# Altium integrated library National Semiconductor Switcher.IntLib: 2226 symbols (part 59 of 59)
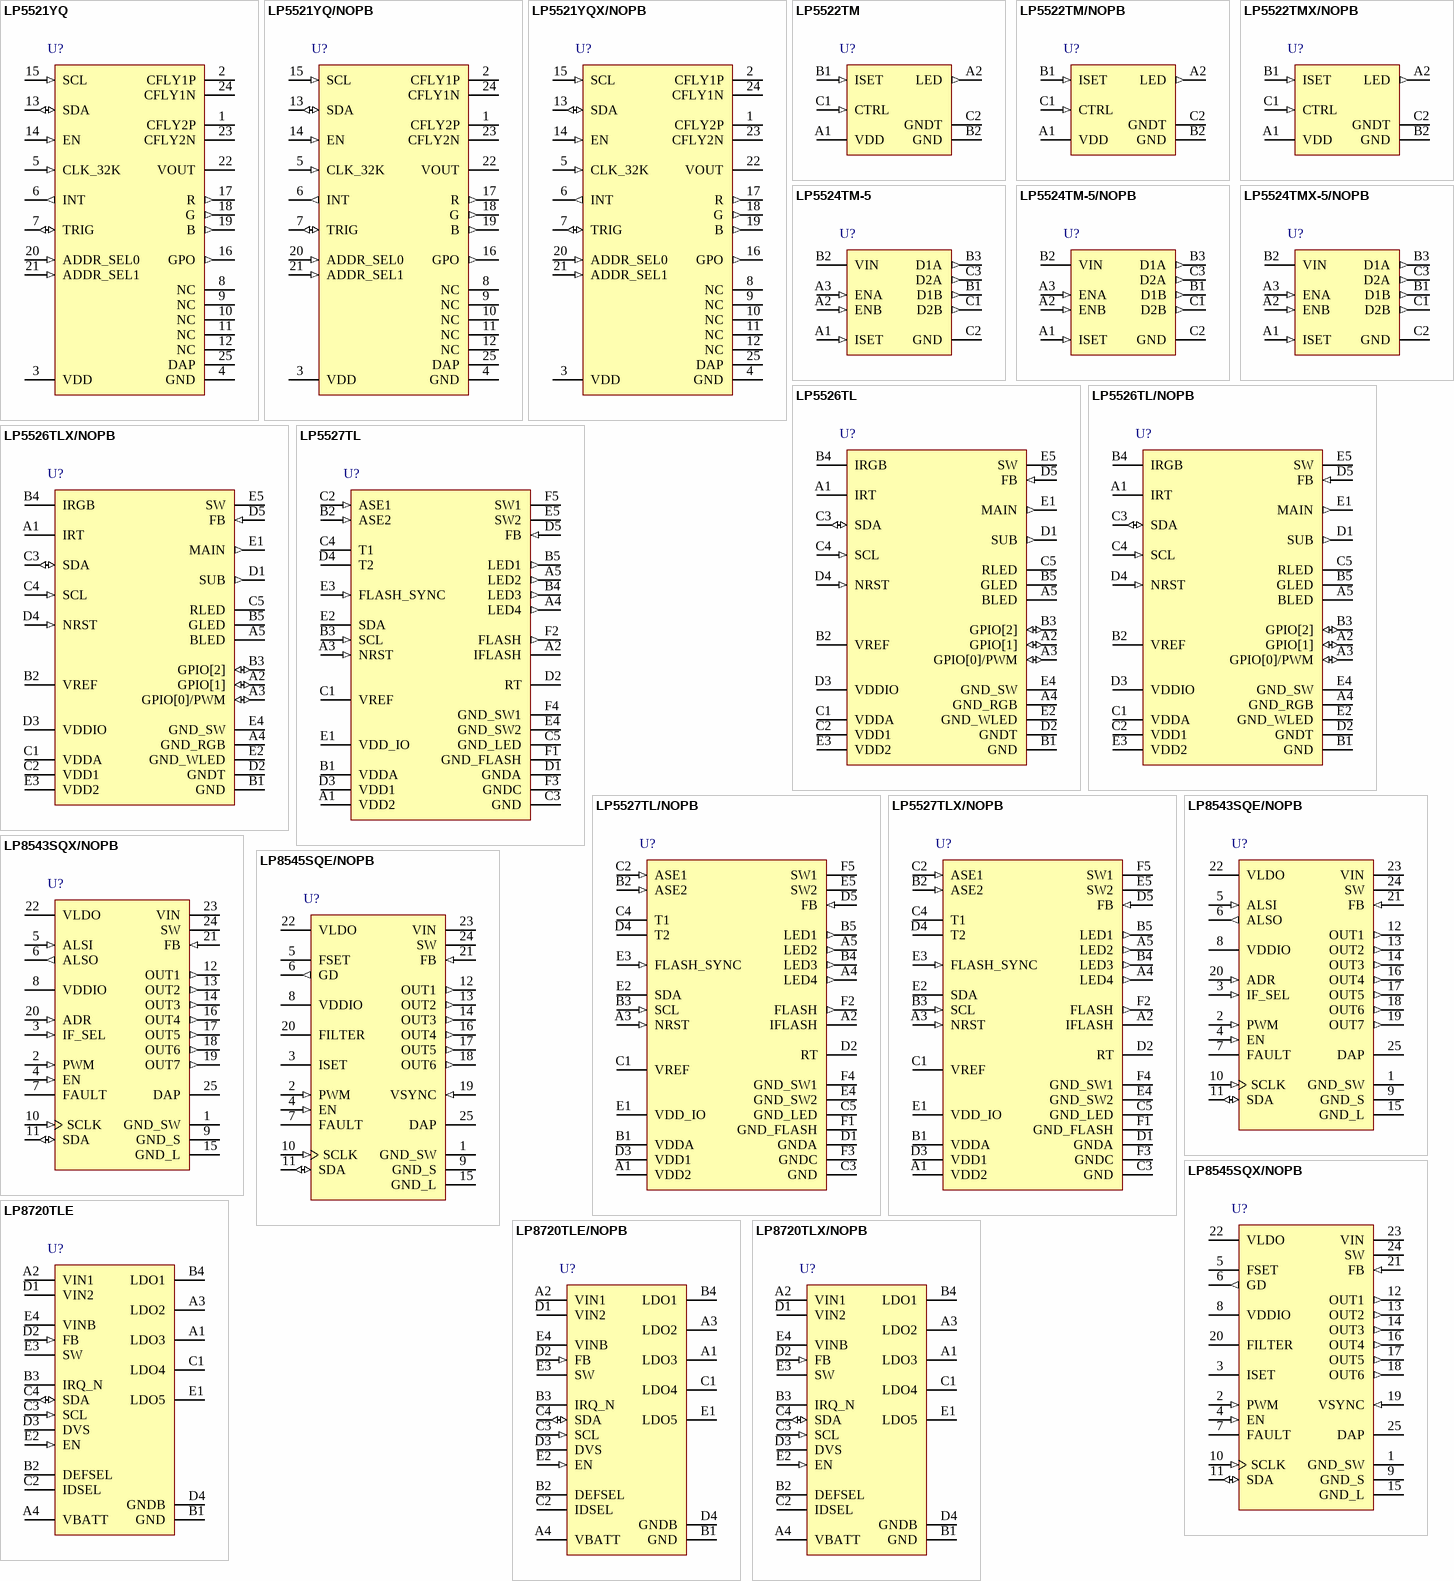
[diagram p127: symbols LP5521YQ to LP8720TLX/NOPB]

## LP8720TLX/NOPB
designator U?
One Step-Down DC/DC and Five Linear Regulators with I2C Compatible Interface, 20-pin Micro SMD, Pb-Free; PartNumber: LP8720TLX/NOPB; Manufacturer: National Semiconductor; PackageTopMarking: XYTT*I 8720; PowerWise: N; CompType: Switcher; High-Reliability: Y; DatasheetVersion: Jul-2008; PackageVersion: revC, Jan-2004; PackageReference: TLA2011A; PackageDescription: Thin Micro SMD, 20 Bump (Large), 0.5mm Pitch; RoHS: Y; PinCount: 20; Code_JEDEC: MO-211-DG; ComponentLink1Description: Manufacturer URL; ComponentLink1URL: http://www.national.com/; ComponentLink2Description: LP8720 Datasheet; ComponentLink2URL: http://www.national.com/ds/LP/LP8720.pdf; ComponentLink3Description: LP8720 Web Page; ComponentLink3URL: http://www.national.com/pf/LP/LP8720.html; ComponentLink4Description: TLA2011A Package Page; ComponentLink4URL: http://www.national.com/packaging/folders/tla2011a.html
footprint TLA2011A (Micro SMD, 20-Leads, Body 2.47x1.97mm, Pitch 0.5mm, NSC Recommended)
pins: A1 LDO3 (power), A2 VIN1 (power), A3 LDO2 (power), A4 VBATT (power), B1 GND (power), B2 DEFSEL, B3 IRQ_N, B4 LDO1 (power), C1 LDO4 (power), C2 IDSEL, C3 SCL (in), C4 SDA (io), D1 VIN2 (power), D2 FB (in), D3 DVS, D4 GNDB (power), E1 LDO5 (power), E2 EN (in), E3 SW (power), E4 VINB (power)

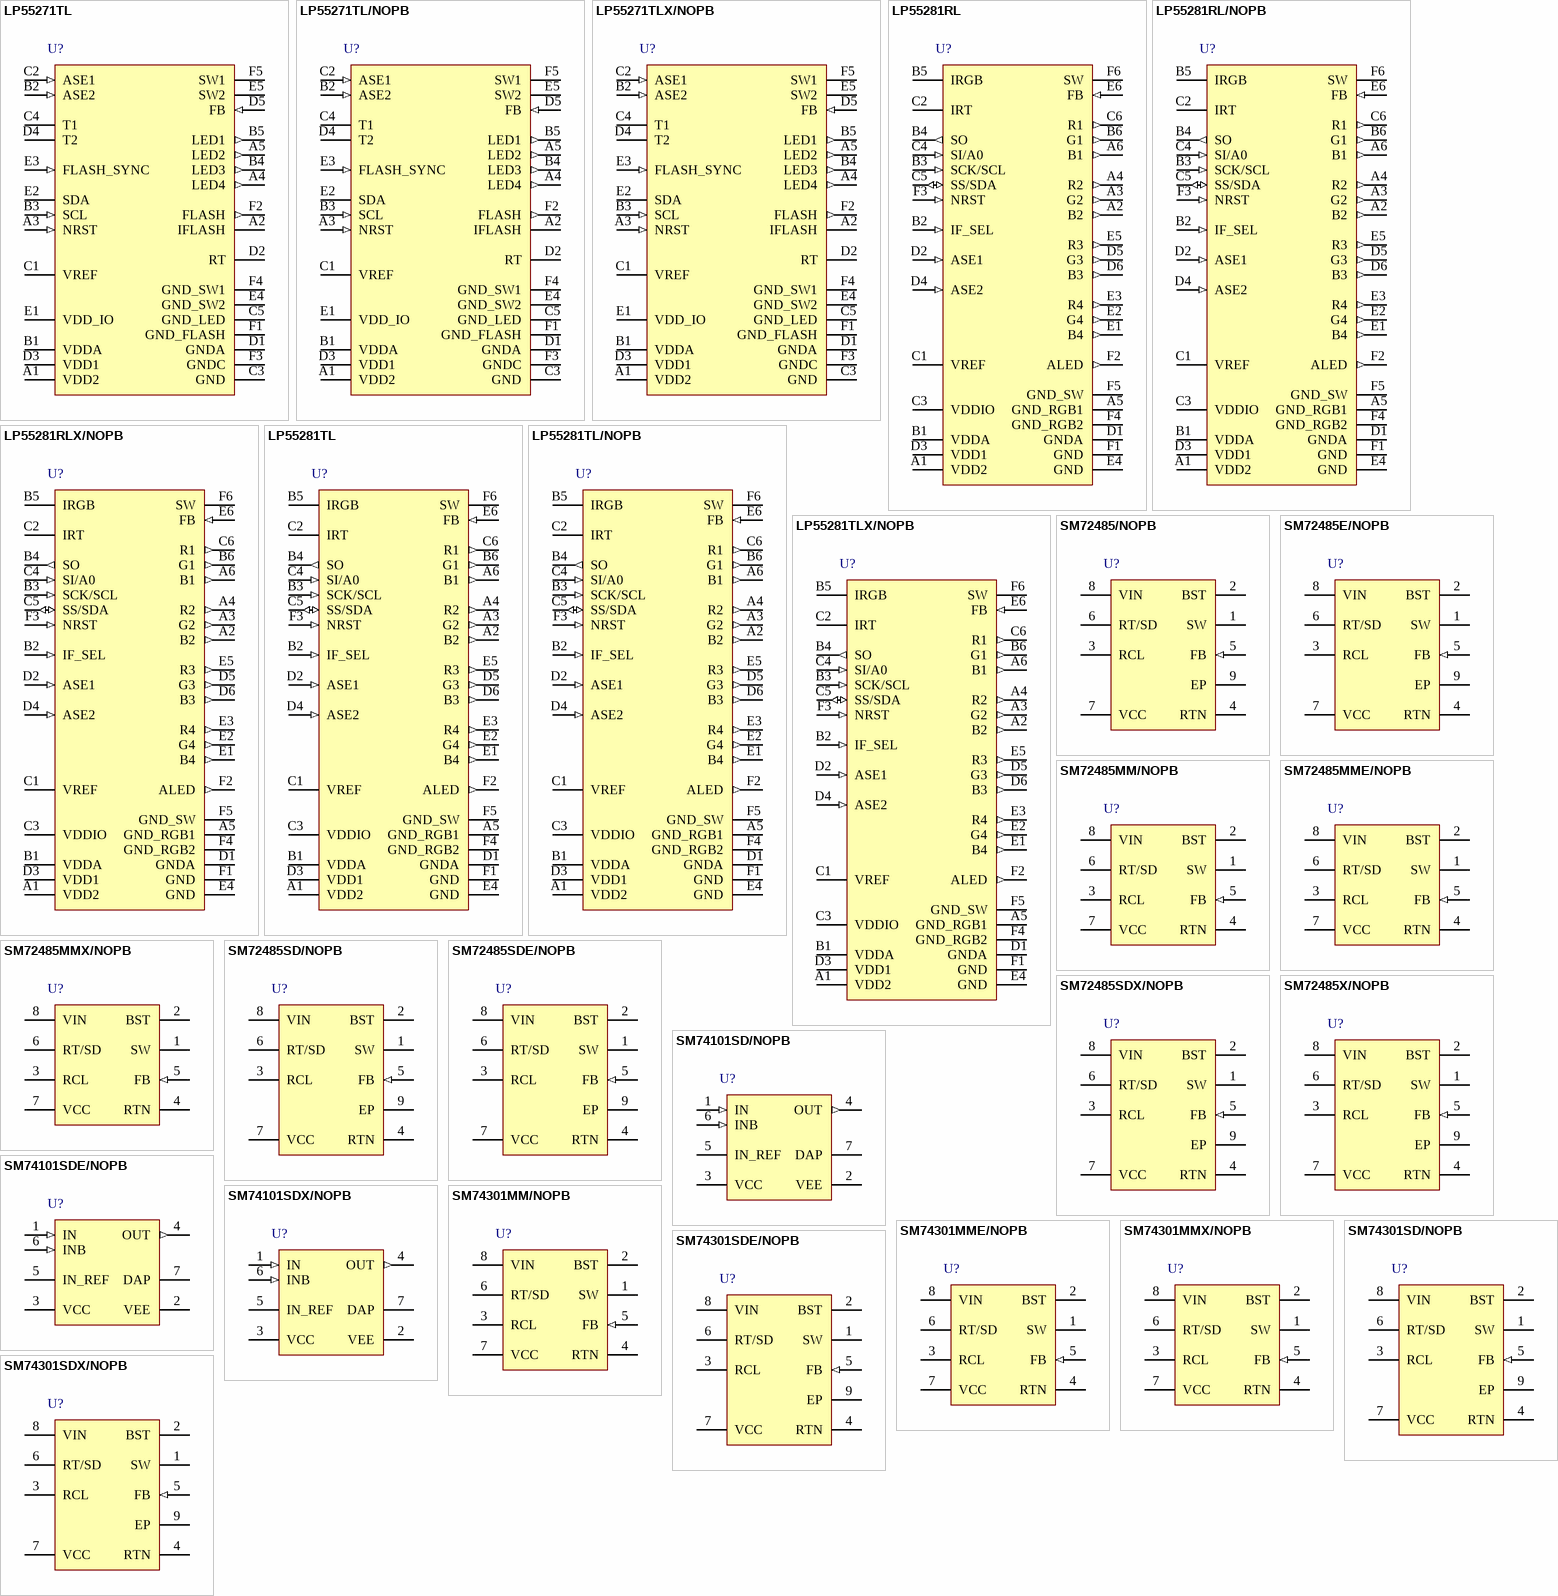
[diagram p69: symbols LP55271TL to SM74301SDX/NOPB]

## LP55271TL
designator U?
Tiny LED Driver for Camera Flash and 4 LEDs with I2C Programmability, Connectivity Test and Audio Synchronization, 30-pin Micro SMD; PartNumber: LP55271TL; Manufacturer: National Semiconductor; PackageTopMarking: XYTT*I D55B; PowerWise: Y; CompType: Switcher; DatasheetVersion: Sep-2006; PackageVersion: revC, Dec-2003; PackageReference: TLA3011A; PackageDescription: Thin Micro SMD, 30 Bump (Large), 0.5mm Pitch; RoHS: Y; PinCount: 30; High-Reliability: Y; Code_JEDEC: MO-211-DJ; ComponentLink1Description: Manufacturer URL; ComponentLink1URL: http://www.national.com/; ComponentLink2Description: LP55271 Datasheet; ComponentLink2URL: http://www.national.com/ds/LP/LP55271.pdf; ComponentLink3Description: LP55271 Web Page; ComponentLink3URL: http://www.national.com/pf/LP/LP55271.html; ComponentLink4Description: TLA3011A Package Page; ComponentLink4URL: http://www.national.com/packaging/folders/tla3011a.html
footprint TLA3011A (Micro SMD, 30-Leads, Body 2.97x2.47mm, Pitch 0.5mm, NSC Recommended)
pins: A1 VDD2 (power), A2 IFLASH, A3 NRST (in), A4 LED4 (out), A5 LED2 (out), B1 VDDA (power), B2 ASE2 (in), B3 SCL (in), B4 LED3 (out), B5 LED1 (out), C1 VREF, C2 ASE1 (in), C3 GND (power), C4 T1, C5 GND_LED (power), D1 GNDA (power), D2 RT, D3 VDD1 (power), D4 T2, D5 FB (in), E1 VDD_IO (power), E2 SDA (oc), E3 FLASH_SYNC (in), E4 GND_SW2 (power), E5 SW2 (power), F1 GND_FLASH (power), F2 FLASH (out), F3 GNDC (power), F4 GND_SW1 (power), F5 SW1 (power)

## LP55271TL/NOPB
designator U?
Tiny LED Driver for Camera Flash and 4 LEDs with I2C Programmability, Connectivity Test and Audio Synchronization, 30-pin Micro SMD, Pb-Free; PartNumber: LP55271TL/NOPB; Manufacturer: National Semiconductor; PackageTopMarking: XYTT*I D55B; PowerWise: Y; CompType: Switcher; DatasheetVersion: Sep-2006; PackageVersion: revC, Dec-2003; PackageReference: TLA3011A; PackageDescription: Thin Micro SMD, 30 Bump (Large), 0.5mm Pitch; RoHS: Y; PinCount: 30; High-Reliability: Y; Code_JEDEC: MO-211-DJ; ComponentLink1Description: Manufacturer URL; ComponentLink1URL: http://www.national.com/; ComponentLink2Description: LP55271 Datasheet; ComponentLink2URL: http://www.national.com/ds/LP/LP55271.pdf; ComponentLink3Description: LP55271 Web Page; ComponentLink3URL: http://www.national.com/pf/LP/LP55271.html; ComponentLink4Description: TLA3011A Package Page; ComponentLink4URL: http://www.national.com/packaging/folders/tla3011a.html
footprint TLA3011A (Micro SMD, 30-Leads, Body 2.97x2.47mm, Pitch 0.5mm, NSC Recommended)
pins: A1 VDD2 (power), A2 IFLASH, A3 NRST (in), A4 LED4 (out), A5 LED2 (out), B1 VDDA (power), B2 ASE2 (in), B3 SCL (in), B4 LED3 (out), B5 LED1 (out), C1 VREF, C2 ASE1 (in), C3 GND (power), C4 T1, C5 GND_LED (power), D1 GNDA (power), D2 RT, D3 VDD1 (power), D4 T2, D5 FB (in), E1 VDD_IO (power), E2 SDA (oc), E3 FLASH_SYNC (in), E4 GND_SW2 (power), E5 SW2 (power), F1 GND_FLASH (power), F2 FLASH (out), F3 GNDC (power), F4 GND_SW1 (power), F5 SW1 (power)

## LP55271TLX/NOPB
designator U?
Tiny LED Driver for Camera Flash and 4 LEDs with I2C Programmability, Connectivity Test and Audio Synchronization, 30-pin Micro SMD, Pb-Free; PartNumber: LP55271TLX/NOPB; Manufacturer: National Semiconductor; PackageTopMarking: XYTT*I D55B; PowerWise: Y; CompType: Switcher; DatasheetVersion: Sep-2006; PackageVersion: revC, Dec-2003; PackageReference: TLA3011A; PackageDescription: Thin Micro SMD, 30 Bump (Large), 0.5mm Pitch; RoHS: Y; PinCount: 30; High-Reliability: Y; Code_JEDEC: MO-211-DJ; ComponentLink1Description: Manufacturer URL; ComponentLink1URL: http://www.national.com/; ComponentLink2Description: LP55271 Datasheet; ComponentLink2URL: http://www.national.com/ds/LP/LP55271.pdf; ComponentLink3Description: LP55271 Web Page; ComponentLink3URL: http://www.national.com/pf/LP/LP55271.html; ComponentLink4Description: TLA3011A Package Page; ComponentLink4URL: http://www.national.com/packaging/folders/tla3011a.html
footprint TLA3011A (Micro SMD, 30-Leads, Body 2.97x2.47mm, Pitch 0.5mm, NSC Recommended)
pins: A1 VDD2 (power), A2 IFLASH, A3 NRST (in), A4 LED4 (out), A5 LED2 (out), B1 VDDA (power), B2 ASE2 (in), B3 SCL (in), B4 LED3 (out), B5 LED1 (out), C1 VREF, C2 ASE1 (in), C3 GND (power), C4 T1, C5 GND_LED (power), D1 GNDA (power), D2 RT, D3 VDD1 (power), D4 T2, D5 FB (in), E1 VDD_IO (power), E2 SDA (oc), E3 FLASH_SYNC (in), E4 GND_SW2 (power), E5 SW2 (power), F1 GND_FLASH (power), F2 FLASH (out), F3 GNDC (power), F4 GND_SW1 (power), F5 SW1 (power)

## LP55281RL
designator U?
Quad RGB Driver, 36-pin Micro SMDXT; PartNumber: LP55281RL; Manufacturer: National Semiconductor; PackageTopMarking: XYTT*I D61B; PowerWise: Y; CompType: Switcher; DatasheetVersion: Jun-2007; PackageVersion: Aug-2007; PackageReference: RLA36AAA; PackageDescription: Micro SMDxt, 36 Bump (Large), 0.5mm Pitch; RoHS: Y; PinCount: 36; High-Reliability: Y; ComponentLink1Description: Manufacturer URL; ComponentLink1URL: http://www.national.com/; ComponentLink2Description: LP55281 Datasheet; ComponentLink2URL: http://www.national.com/ds/LP/LP55281.pdf; ComponentLink3Description: LP55281 Web Page; ComponentLink3URL: http://www.national.com/pf/LP/LP55281.html
footprint RLA36AAA (Micro SMD, 36-Leads, Body 3x3mm, Pitch 0.5mm, NSC Recommended)
pins: A1 VDD2 (power), A2 B2 (out), A3 G2 (out), A4 R2 (out), A5 GND_RGB1 (power), A6 B1 (out), B1 VDDA (power), B2 IF_SEL (in), B3 SCK/SCL (in), B4 SO (out), B5 IRGB, B6 G1 (out), C1 VREF, C2 IRT, C3 VDDIO (power), C4 SI/A0 (in), C5 SS/SDA (io), C6 R1 (out), D1 GNDA (power), D2 ASE1 (in), D3 VDD1 (power), D4 ASE2 (in), D5 G3 (out), D6 B3 (out), E1 B4 (out), E2 G4 (out), E3 R4 (out), E4 GND (power), E5 R3 (out), E6 FB (in), F1 GND (power), F2 ALED (out), F3 NRST (in), F4 GND_RGB2 (power), F5 GND_SW (power), F6 SW (power)

## LP55281RL/NOPB
designator U?
Quad RGB Driver, 36-pin Micro SMDXT, Pb-Free; PartNumber: LP55281RL/NOPB; Manufacturer: National Semiconductor; PackageTopMarking: XYTT*I D61B; PowerWise: Y; CompType: Switcher; DatasheetVersion: Jun-2007; PackageVersion: Aug-2007; PackageReference: RLA36AAA; PackageDescription: Micro SMDxt, 36 Bump (Large), 0.5mm Pitch; RoHS: Y; PinCount: 36; High-Reliability: Y; ComponentLink1Description: Manufacturer URL; ComponentLink1URL: http://www.national.com/; ComponentLink2Description: LP55281 Datasheet; ComponentLink2URL: http://www.national.com/ds/LP/LP55281.pdf; ComponentLink3Description: LP55281 Web Page; ComponentLink3URL: http://www.national.com/pf/LP/LP55281.html; ComponentLink4Description: RLA36AAA Package Page; ComponentLink4URL: http://www.national.com/packaging/folders/rla36aaa.html
footprint RLA36AAA (Micro SMD, 36-Leads, Body 3x3mm, Pitch 0.5mm, NSC Recommended)
pins: A1 VDD2 (power), A2 B2 (out), A3 G2 (out), A4 R2 (out), A5 GND_RGB1 (power), A6 B1 (out), B1 VDDA (power), B2 IF_SEL (in), B3 SCK/SCL (in), B4 SO (out), B5 IRGB, B6 G1 (out), C1 VREF, C2 IRT, C3 VDDIO (power), C4 SI/A0 (in), C5 SS/SDA (io), C6 R1 (out), D1 GNDA (power), D2 ASE1 (in), D3 VDD1 (power), D4 ASE2 (in), D5 G3 (out), D6 B3 (out), E1 B4 (out), E2 G4 (out), E3 R4 (out), E4 GND (power), E5 R3 (out), E6 FB (in), F1 GND (power), F2 ALED (out), F3 NRST (in), F4 GND_RGB2 (power), F5 GND_SW (power), F6 SW (power)

## LP55281RLX/NOPB
designator U?
Quad RGB Driver, 36-pin Micro SMDXT, Pb-Free; PartNumber: LP55281RLX/NOPB; Manufacturer: National Semiconductor; PackageTopMarking: XYTT*I D61B; PowerWise: Y; CompType: Switcher; DatasheetVersion: Jun-2007; PackageVersion: Aug-2007; PackageReference: RLA36AAA; PackageDescription: Micro SMDxt, 36 Bump (Large), 0.5mm Pitch; RoHS: Y; PinCount: 36; High-Reliability: Y; ComponentLink1Description: Manufacturer URL; ComponentLink1URL: http://www.national.com/; ComponentLink2Description: LP55281 Datasheet; ComponentLink2URL: http://www.national.com/ds/LP/LP55281.pdf; ComponentLink3Description: LP55281 Web Page; ComponentLink3URL: http://www.national.com/pf/LP/LP55281.html; ComponentLink4Description: RLA36AAA Package Page; ComponentLink4URL: http://www.national.com/packaging/folders/rla36aaa.html
footprint RLA36AAA (Micro SMD, 36-Leads, Body 3x3mm, Pitch 0.5mm, NSC Recommended)
pins: A1 VDD2 (power), A2 B2 (out), A3 G2 (out), A4 R2 (out), A5 GND_RGB1 (power), A6 B1 (out), B1 VDDA (power), B2 IF_SEL (in), B3 SCK/SCL (in), B4 SO (out), B5 IRGB, B6 G1 (out), C1 VREF, C2 IRT, C3 VDDIO (power), C4 SI/A0 (in), C5 SS/SDA (io), C6 R1 (out), D1 GNDA (power), D2 ASE1 (in), D3 VDD1 (power), D4 ASE2 (in), D5 G3 (out), D6 B3 (out), E1 B4 (out), E2 G4 (out), E3 R4 (out), E4 GND (power), E5 R3 (out), E6 FB (in), F1 GND (power), F2 ALED (out), F3 NRST (in), F4 GND_RGB2 (power), F5 GND_SW (power), F6 SW (power)

## LP55281TL
designator U?
Quad RGB Driver, 36-pin Micro SMD; PartNumber: LP55281TL; Manufacturer: National Semiconductor; PackageTopMarking: XYTT*I D56B; PowerWise: Y; CompType: Switcher; DatasheetVersion: Jun-2007; PackageVersion: revC, Dec-2003; PackageReference: TLA36AAA; PackageDescription: Thin Micro SMD, 36 Bump (Large), 0.5mm Pitch; RoHS: Y; PinCount: 36; High-Reliability: Y; Code_JEDEC: MO-211-DK; ComponentLink1Description: Manufacturer URL; ComponentLink1URL: http://www.national.com/; ComponentLink2Description: LP55281 Datasheet; ComponentLink2URL: http://www.national.com/ds/LP/LP55281.pdf; ComponentLink3Description: LP55281 Web Page; ComponentLink3URL: http://www.national.com/pf/LP/LP55281.html; ComponentLink4Description: TLA36AAA Package Page; ComponentLink4URL: http://www.national.com/packaging/folders/tla36aaa.html
footprint TLA36AAA (Micro SMD, 36-Leads, Body 3x3mm, Pitch 0.5mm, NSC Recommended)
pins: A1 VDD2 (power), A2 B2 (out), A3 G2 (out), A4 R2 (out), A5 GND_RGB1 (power), A6 B1 (out), B1 VDDA (power), B2 IF_SEL (in), B3 SCK/SCL (in), B4 SO (out), B5 IRGB, B6 G1 (out), C1 VREF, C2 IRT, C3 VDDIO (power), C4 SI/A0 (in), C5 SS/SDA (io), C6 R1 (out), D1 GNDA (power), D2 ASE1 (in), D3 VDD1 (power), D4 ASE2 (in), D5 G3 (out), D6 B3 (out), E1 B4 (out), E2 G4 (out), E3 R4 (out), E4 GND (power), E5 R3 (out), E6 FB (in), F1 GND (power), F2 ALED (out), F3 NRST (in), F4 GND_RGB2 (power), F5 GND_SW (power), F6 SW (power)

## LP55281TL/NOPB
designator U?
Quad RGB Driver, 36-pin Micro SMD, Pb-Free; PartNumber: LP55281TL/NOPB; Manufacturer: National Semiconductor; PackageTopMarking: XYTT*I D56B; PowerWise: Y; CompType: Switcher; DatasheetVersion: Jun-2007; PackageVersion: revC, Dec-2003; PackageReference: TLA36AAA; PackageDescription: Thin Micro SMD, 36 Bump (Large), 0.5mm Pitch; RoHS: Y; PinCount: 36; High-Reliability: Y; Code_JEDEC: MO-211-DK; ComponentLink1Description: Manufacturer URL; ComponentLink1URL: http://www.national.com/; ComponentLink2Description: LP55281 Datasheet; ComponentLink2URL: http://www.national.com/ds/LP/LP55281.pdf; ComponentLink3Description: LP55281 Web Page; ComponentLink3URL: http://www.national.com/pf/LP/LP55281.html; ComponentLink4Description: TLA36AAA Package Page; ComponentLink4URL: http://www.national.com/packaging/folders/tla36aaa.html
footprint TLA36AAA (Micro SMD, 36-Leads, Body 3x3mm, Pitch 0.5mm, NSC Recommended)
pins: A1 VDD2 (power), A2 B2 (out), A3 G2 (out), A4 R2 (out), A5 GND_RGB1 (power), A6 B1 (out), B1 VDDA (power), B2 IF_SEL (in), B3 SCK/SCL (in), B4 SO (out), B5 IRGB, B6 G1 (out), C1 VREF, C2 IRT, C3 VDDIO (power), C4 SI/A0 (in), C5 SS/SDA (io), C6 R1 (out), D1 GNDA (power), D2 ASE1 (in), D3 VDD1 (power), D4 ASE2 (in), D5 G3 (out), D6 B3 (out), E1 B4 (out), E2 G4 (out), E3 R4 (out), E4 GND (power), E5 R3 (out), E6 FB (in), F1 GND (power), F2 ALED (out), F3 NRST (in), F4 GND_RGB2 (power), F5 GND_SW (power), F6 SW (power)

## LP55281TLX/NOPB
designator U?
Quad RGB Driver, 36-pin Micro SMD, Pb-Free; PartNumber: LP55281TLX/NOPB; Manufacturer: National Semiconductor; PackageTopMarking: XYTT*I D56B; PowerWise: Y; CompType: Switcher; DatasheetVersion: Jun-2007; PackageVersion: revC, Dec-2003; PackageReference: TLA36AAA; PackageDescription: Thin Micro SMD, 36 Bump (Large), 0.5mm Pitch; RoHS: Y; PinCount: 36; High-Reliability: Y; Code_JEDEC: MO-211-DK; ComponentLink1Description: Manufacturer URL; ComponentLink1URL: http://www.national.com/; ComponentLink2Description: LP55281 Datasheet; ComponentLink2URL: http://www.national.com/ds/LP/LP55281.pdf; ComponentLink3Description: LP55281 Web Page; ComponentLink3URL: http://www.national.com/pf/LP/LP55281.html; ComponentLink4Description: TLA36AAA Package Page; ComponentLink4URL: http://www.national.com/packaging/folders/tla36aaa.html
footprint TLA36AAA (Micro SMD, 36-Leads, Body 3x3mm, Pitch 0.5mm, NSC Recommended)
pins: A1 VDD2 (power), A2 B2 (out), A3 G2 (out), A4 R2 (out), A5 GND_RGB1 (power), A6 B1 (out), B1 VDDA (power), B2 IF_SEL (in), B3 SCK/SCL (in), B4 SO (out), B5 IRGB, B6 G1 (out), C1 VREF, C2 IRT, C3 VDDIO (power), C4 SI/A0 (in), C5 SS/SDA (io), C6 R1 (out), D1 GNDA (power), D2 ASE1 (in), D3 VDD1 (power), D4 ASE2 (in), D5 G3 (out), D6 B3 (out), E1 B4 (out), E2 G4 (out), E3 R4 (out), E4 GND (power), E5 R3 (out), E6 FB (in), F1 GND (power), F2 ALED (out), F3 NRST (in), F4 GND_RGB2 (power), F5 GND_SW (power), F6 SW (power)

## SM72485/NOPB
designator U?
SolarMagic 100V, 150 mA Constant On-Time Buck Switching Regulator, 8-pin LLP, 4500 Reel, Pb-Free; PartNumber: SM72485/NOPB; Manufacturer: National Semiconductor; PackageTopMarking: NS*UZXYTT*S2485; PowerWise: N; CompType: Switcher; High-Reliability: Y; DatasheetVersion: Feb-2011; PackageVersion: revA, Jun-2003; PackageReference: SDC08A; PackageDescription: LLP, Plastic, Dual, 4 x 4 x 0.8mm Body, 8 Lead, 0.8mm Pitch, No Pullback; RoHS: Y; PinCount: 8; ComponentLink1Description: Manufacturer URL; ComponentLink1URL: http://www.national.com/; ComponentLink2Description: SM72485 Datasheet; ComponentLink2URL: http://www.national.com/ds/SM/SM72485.pdf; ComponentLink3Description: SM72485 Web Page; ComponentLink3URL: http://www.national.com/pf/SM/SM72485.html; ComponentLink4Description: SDC08A Package Page; ComponentLink4URL: http://www.national.com/packaging/folders/sdc08a.html
footprint SDC08A (SON, 8-Leads, Body 4x4mm, Pitch 0.8mm, NSC Recommended)
pins: 1 SW, 2 BST, 3 RCL, 4 RTN (power), 5 FB (in), 6 RT/SD, 7 VCC (power), 8 VIN (power), 9 EP (power)

## SM72485E/NOPB
designator U?
SolarMagic 100V, 150 mA Constant On-Time Buck Switching Regulator, 8-pin LLP, 250 Reel, Pb-Free; PartNumber: SM72485E/NOPB; Manufacturer: National Semiconductor; PackageTopMarking: NS*UZXYTT*S2485; PowerWise: N; CompType: Switcher; High-Reliability: Y; DatasheetVersion: Feb-2011; PackageVersion: revA, Jun-2003; PackageReference: SDC08A; PackageDescription: LLP, Plastic, Dual, 4 x 4 x 0.8mm Body, 8 Lead, 0.8mm Pitch, No Pullback; RoHS: Y; PinCount: 8; ComponentLink1Description: Manufacturer URL; ComponentLink1URL: http://www.national.com/; ComponentLink2Description: SM72485 Datasheet; ComponentLink2URL: http://www.national.com/ds/SM/SM72485.pdf; ComponentLink3Description: SM72485 Web Page; ComponentLink3URL: http://www.national.com/pf/SM/SM72485.html; ComponentLink4Description: SDC08A Package Page; ComponentLink4URL: http://www.national.com/packaging/folders/sdc08a.html
footprint SDC08A (SON, 8-Leads, Body 4x4mm, Pitch 0.8mm, NSC Recommended)
pins: 1 SW, 2 BST, 3 RCL, 4 RTN (power), 5 FB (in), 6 RT/SD, 7 VCC (power), 8 VIN (power), 9 EP (power)

## SM72485MM/NOPB
designator U?
SolarMagic 100V, 150 mA Constant On-Time Buck Switching Regulator, 8-pin Mini SOIC; PartNumber: SM72485MM/NOPB; Manufacturer: National Semiconductor; PackageTopMarking: ZXTT*2485; PowerWise: N; CompType: Switcher; High-Reliability: Y; DatasheetVersion: May-2011; PackageVersion: revF, Apr-2008; PackageReference: MUA08A; PackageDescription: MINI SOIC, .118 x .118 x .034in, 8 Lead, .0256in Pitch; RoHS: Y; PinCount: 8; Code_JEDEC: MO-187-AA; ComponentLink1Description: Manufacturer URL; ComponentLink1URL: http://www.national.com/; ComponentLink2Description: SM72485 Datasheet; ComponentLink2URL: http://www.national.com/ds/SM/SM72485.pdf; ComponentLink3Description: SM72485 Web Page; ComponentLink3URL: http://www.national.com/pf/SM/SM72485.html; ComponentLink4Description: MUA08A Package Page; ComponentLink4URL: http://www.national.com/packaging/folders/mua08a.html
footprint MUA08A_N (TSOP, 8-Leads, Body 3x3mm, Pitch 0.65mm, IPC Medium Density)
footprint MUA08A_L (TSOP, 8-Leads, Body 3x3mm, Pitch 0.65mm, IPC High Density)
footprint MUA08A_M (TSOP, 8-Leads, Body 3x3mm, Pitch 0.65mm, IPC Low Density)
pins: 1 SW, 2 BST, 3 RCL, 4 RTN (power), 5 FB (in), 6 RT/SD, 7 VCC (power), 8 VIN (power)

## SM72485MME/NOPB
designator U?
SolarMagic 100V, 150 mA Constant On-Time Buck Switching Regulator, 8-pin Mini SOIC; PartNumber: SM72485MME/NOPB; Manufacturer: National Semiconductor; PackageTopMarking: ZXTT*2485; PowerWise: N; CompType: Switcher; High-Reliability: Y; DatasheetVersion: May-2011; PackageVersion: revF, Apr-2008; PackageReference: MUA08A; PackageDescription: MINI SOIC, .118 x .118 x .034in, 8 Lead, .0256in Pitch; RoHS: Y; PinCount: 8; Code_JEDEC: MO-187-AA; ComponentLink1Description: Manufacturer URL; ComponentLink1URL: http://www.national.com/; ComponentLink2Description: SM72485 Datasheet; ComponentLink2URL: http://www.national.com/ds/SM/SM72485.pdf; ComponentLink3Description: SM72485 Web Page; ComponentLink3URL: http://www.national.com/pf/SM/SM72485.html; ComponentLink4Description: MUA08A Package Page; ComponentLink4URL: http://www.national.com/packaging/folders/mua08a.html
footprint MUA08A_N (TSOP, 8-Leads, Body 3x3mm, Pitch 0.65mm, IPC Medium Density)
footprint MUA08A_L (TSOP, 8-Leads, Body 3x3mm, Pitch 0.65mm, IPC High Density)
footprint MUA08A_M (TSOP, 8-Leads, Body 3x3mm, Pitch 0.65mm, IPC Low Density)
pins: 1 SW, 2 BST, 3 RCL, 4 RTN (power), 5 FB (in), 6 RT/SD, 7 VCC (power), 8 VIN (power)

## SM72485MMX/NOPB
designator U?
SolarMagic 100V, 150 mA Constant On-Time Buck Switching Regulator, 8-pin Mini SOIC; PartNumber: SM72485MMX/NOPB; Manufacturer: National Semiconductor; PackageTopMarking: ZXTT*2485; PowerWise: N; CompType: Switcher; High-Reliability: Y; DatasheetVersion: May-2011; PackageVersion: revF, Apr-2008; PackageReference: MUA08A; PackageDescription: MINI SOIC, .118 x .118 x .034in, 8 Lead, .0256in Pitch; RoHS: Y; PinCount: 8; Code_JEDEC: MO-187-AA; ComponentLink1Description: Manufacturer URL; ComponentLink1URL: http://www.national.com/; ComponentLink2Description: SM72485 Datasheet; ComponentLink2URL: http://www.national.com/ds/SM/SM72485.pdf; ComponentLink3Description: SM72485 Web Page; ComponentLink3URL: http://www.national.com/pf/SM/SM72485.html; ComponentLink4Description: MUA08A Package Page; ComponentLink4URL: http://www.national.com/packaging/folders/mua08a.html
footprint MUA08A_N (TSOP, 8-Leads, Body 3x3mm, Pitch 0.65mm, IPC Medium Density)
footprint MUA08A_L (TSOP, 8-Leads, Body 3x3mm, Pitch 0.65mm, IPC High Density)
footprint MUA08A_M (TSOP, 8-Leads, Body 3x3mm, Pitch 0.65mm, IPC Low Density)
pins: 1 SW, 2 BST, 3 RCL, 4 RTN (power), 5 FB (in), 6 RT/SD, 7 VCC (power), 8 VIN (power)

## SM72485SD/NOPB
designator U?
SolarMagic 100V, 150 mA Constant On-Time Buck Switching Regulator, 8-pin LLP, 1000 Reel; PartNumber: SM72485SD/NOPB; Manufacturer: National Semiconductor; PackageTopMarking: NS*UZXYTT*S2485; PowerWise: N; CompType: Switcher; High-Reliability: Y; DatasheetVersion: May-2011; PackageVersion: revA, Mar-2006; PackageReference: SDC08B; PackageDescription: LLP, Dual, 4 x 4 x 0.8mm Body, 8 Lead, 0.8mm Pitch, No Pullback, 1.98 x 3mm Exposed Pad; RoHS: Y; PinCount: 8; ComponentLink1Description: Manufacturer URL; ComponentLink1URL: http://www.national.com/; ComponentLink2Description: SM72485 Datasheet; ComponentLink2URL: http://www.national.com/ds/SM/SM72485.pdf; ComponentLink3Description: SM72485 Web Page; ComponentLink3URL: http://www.national.com/pf/SM/SM72485.html; ComponentLink4Description: SDC08B Package Page; ComponentLink4URL: http://www.national.com/packaging/folders/sdc08b.html
footprint SDC08B (SON, 8-Leads, Body 4x4mm, Pitch 0.8mm, NSC Recommended)
pins: 1 SW, 2 BST, 3 RCL, 4 RTN (power), 5 FB (in), 6 RT/SD, 7 VCC (power), 8 VIN (power), 9 EP (power)

## SM72485SDE/NOPB
designator U?
SolarMagic 100V, 150 mA Constant On-Time Buck Switching Regulator, 8-pin LLP, 250 Reel; PartNumber: SM72485SDE/NOPB; Manufacturer: National Semiconductor; PackageTopMarking: NS*UZXYTT*S2485; PowerWise: N; CompType: Switcher; High-Reliability: Y; DatasheetVersion: May-2011; PackageVersion: revA, Mar-2006; PackageReference: SDC08B; PackageDescription: LLP, Dual, 4 x 4 x 0.8mm Body, 8 Lead, 0.8mm Pitch, No Pullback, 1.98 x 3mm Exposed Pad; RoHS: Y; PinCount: 8; ComponentLink1Description: Manufacturer URL; ComponentLink1URL: http://www.national.com/; ComponentLink2Description: SM72485 Datasheet; ComponentLink2URL: http://www.national.com/ds/SM/SM72485.pdf; ComponentLink3Description: SM72485 Web Page; ComponentLink3URL: http://www.national.com/pf/SM/SM72485.html; ComponentLink4Description: SDC08B Package Page; ComponentLink4URL: http://www.national.com/packaging/folders/sdc08b.html
footprint SDC08B (SON, 8-Leads, Body 4x4mm, Pitch 0.8mm, NSC Recommended)
pins: 1 SW, 2 BST, 3 RCL, 4 RTN (power), 5 FB (in), 6 RT/SD, 7 VCC (power), 8 VIN (power), 9 EP (power)

## SM72485SDX/NOPB
designator U?
SolarMagic 100V, 150 mA Constant On-Time Buck Switching Regulator, 8-pin LLP, 4500 Reel; PartNumber: SM72485SDX/NOPB; Manufacturer: National Semiconductor; PackageTopMarking: NS*UZXYTT*S2485; PowerWise: N; CompType: Switcher; High-Reliability: Y; DatasheetVersion: May-2011; PackageVersion: revA, Mar-2006; PackageReference: SDC08B; PackageDescription: LLP, Dual, 4 x 4 x 0.8mm Body, 8 Lead, 0.8mm Pitch, No Pullback, 1.98 x 3mm Exposed Pad; RoHS: Y; PinCount: 8; ComponentLink1Description: Manufacturer URL; ComponentLink1URL: http://www.national.com/; ComponentLink2Description: SM72485 Datasheet; ComponentLink2URL: http://www.national.com/ds/SM/SM72485.pdf; ComponentLink3Description: SM72485 Web Page; ComponentLink3URL: http://www.national.com/pf/SM/SM72485.html; ComponentLink4Description: SDC08B Package Page; ComponentLink4URL: http://www.national.com/packaging/folders/sdc08b.html
footprint SDC08B (SON, 8-Leads, Body 4x4mm, Pitch 0.8mm, NSC Recommended)
pins: 1 SW, 2 BST, 3 RCL, 4 RTN (power), 5 FB (in), 6 RT/SD, 7 VCC (power), 8 VIN (power), 9 EP (power)

## SM72485X/NOPB
designator U?
SolarMagic 100V, 150 mA Constant On-Time Buck Switching Regulator, 8-pin LLP, 4500 Reel, Pb-Free; PartNumber: SM72485X/NOPB; Manufacturer: National Semiconductor; PackageTopMarking: NS*UZXYTT*S2485; PowerWise: N; CompType: Switcher; High-Reliability: Y; DatasheetVersion: Feb-2011; PackageVersion: revA, Jun-2003; PackageReference: SDC08A; PackageDescription: LLP, Plastic, Dual, 4 x 4 x 0.8mm Body, 8 Lead, 0.8mm Pitch, No Pullback; RoHS: Y; PinCount: 8; ComponentLink1Description: Manufacturer URL; ComponentLink1URL: http://www.national.com/; ComponentLink2Description: SM72485 Datasheet; ComponentLink2URL: http://www.national.com/ds/SM/SM72485.pdf; ComponentLink3Description: SM72485 Web Page; ComponentLink3URL: http://www.national.com/pf/SM/SM72485.html; ComponentLink4Description: SDC08A Package Page; ComponentLink4URL: http://www.national.com/packaging/folders/sdc08a.html
footprint SDC08A (SON, 8-Leads, Body 4x4mm, Pitch 0.8mm, NSC Recommended)
pins: 1 SW, 2 BST, 3 RCL, 4 RTN (power), 5 FB (in), 6 RT/SD, 7 VCC (power), 8 VIN (power), 9 EP (power)

## SM74101SD/NOPB
designator U?
Tiny 7A MOSFET Gate Driver, 6-pin LLP; PartNumber: SM74101SD/NOPB; Manufacturer: National Semiconductor; PackageTopMarking: ZXYTT*L264B; PowerWise: N; CompType: Switcher; High-Reliability: Y; DatasheetVersion: Jul-2011; PackageVersion: revA, Jul-2003; PackageReference: SDE06A; PackageDescription: LLP, Plastic, Dual, 3 x 3 x 0.8mm Body, 6 Lead, 0.95mm Pitch, No Pullback; RoHS: Y; PinCount: 6; ComponentLink1Description: Manufacturer URL; ComponentLink1URL: http://www.national.com/; ComponentLink2Description: SM74101 Datasheet; ComponentLink2URL: http://www.national.com/ds/SM/SM74101.pdf; ComponentLink3Description: SM74101 Web Page; ComponentLink3URL: http://www.national.com/pf/SM/SM74101.html; ComponentLink4Description: SDE06A Package Page; ComponentLink4URL: http://www.national.com/packaging/folders/sde06a.html
footprint SDE06A_full (SON, 6-Leads, Body 3x3 mm, Pitch 0.95mm, Full Paste, NSC Recommended)
footprint SDE06A_quad (SON, 6-Leads, Body 3x3 mm, Pitch 0.95mm, Quad Paste, NSC Recommended)
pins: 1 IN (in), 2 VEE (power), 3 VCC (power), 4 OUT (out), 5 IN_REF (power), 6 INB (in), 7 DAP (power)

## SM74101SDE/NOPB
designator U?
Tiny 7A MOSFET Gate Driver, 6-pin LLP; PartNumber: SM74101SDE/NOPB; Manufacturer: National Semiconductor; PackageTopMarking: ZXYTT*L264B; PowerWise: N; CompType: Switcher; High-Reliability: Y; DatasheetVersion: Jul-2011; PackageVersion: revA, Jul-2003; PackageReference: SDE06A; PackageDescription: LLP, Plastic, Dual, 3 x 3 x 0.8mm Body, 6 Lead, 0.95mm Pitch, No Pullback; RoHS: Y; PinCount: 6; ComponentLink1Description: Manufacturer URL; ComponentLink1URL: http://www.national.com/; ComponentLink2Description: SM74101 Datasheet; ComponentLink2URL: http://www.national.com/ds/SM/SM74101.pdf; ComponentLink3Description: SM74101 Web Page; ComponentLink3URL: http://www.national.com/pf/SM/SM74101.html; ComponentLink4Description: SDE06A Package Page; ComponentLink4URL: http://www.national.com/packaging/folders/sde06a.html
footprint SDE06A_full (SON, 6-Leads, Body 3x3 mm, Pitch 0.95mm, Full Paste, NSC Recommended)
footprint SDE06A_quad (SON, 6-Leads, Body 3x3 mm, Pitch 0.95mm, Quad Paste, NSC Recommended)
pins: 1 IN (in), 2 VEE (power), 3 VCC (power), 4 OUT (out), 5 IN_REF (power), 6 INB (in), 7 DAP (power)

## SM74101SDX/NOPB
designator U?
Tiny 7A MOSFET Gate Driver, 6-pin LLP; PartNumber: SM74101SDX/NOPB; Manufacturer: National Semiconductor; PackageTopMarking: ZXYTT*L264B; PowerWise: N; CompType: Switcher; High-Reliability: Y; DatasheetVersion: Jul-2011; PackageVersion: revA, Jul-2003; PackageReference: SDE06A; PackageDescription: LLP, Plastic, Dual, 3 x 3 x 0.8mm Body, 6 Lead, 0.95mm Pitch, No Pullback; RoHS: Y; PinCount: 6; ComponentLink1Description: Manufacturer URL; ComponentLink1URL: http://www.national.com/; ComponentLink2Description: SM74101 Datasheet; ComponentLink2URL: http://www.national.com/ds/SM/SM74101.pdf; ComponentLink3Description: SM74101 Web Page; ComponentLink3URL: http://www.national.com/pf/SM/SM74101.html; ComponentLink4Description: SDE06A Package Page; ComponentLink4URL: http://www.national.com/packaging/folders/sde06a.html
footprint SDE06A_full (SON, 6-Leads, Body 3x3 mm, Pitch 0.95mm, Full Paste, NSC Recommended)
footprint SDE06A_quad (SON, 6-Leads, Body 3x3 mm, Pitch 0.95mm, Quad Paste, NSC Recommended)
pins: 1 IN (in), 2 VEE (power), 3 VCC (power), 4 OUT (out), 5 IN_REF (power), 6 INB (in), 7 DAP (power)

## SM74301MM/NOPB
designator U?
100V, 350 mA Constant On-Time Buck Switching Regulator, 8-pin Mini SOIC; PartNumber: SM74301MM/NOPB; Manufacturer: National Semiconductor; PackageTopMarking: ZXTT*SB9B; PowerWise: N; CompType: Switcher; High-Reliability: Y; DatasheetVersion: Jul-2011; PackageVersion: revF, Apr-2008; PackageReference: MUA08A; PackageDescription: MINI SOIC, .118 x .118 x .034in, 8 Lead, .0256in Pitch; RoHS: Y; PinCount: 8; Code_JEDEC: MO-187-AA; ComponentLink1Description: Manufacturer URL; ComponentLink1URL: http://www.national.com/; ComponentLink2Description: SM74301 Datasheet; ComponentLink2URL: http://www.national.com/ds/SM/SM74301.pdf; ComponentLink3Description: SM74301 Web Page; ComponentLink3URL: http://www.national.com/pf/SM/SM74301.html; ComponentLink4Description: MUA08A Package Page; ComponentLink4URL: http://www.national.com/packaging/folders/mua08a.html
footprint MUA08A_N (TSOP, 8-Leads, Body 3x3mm, Pitch 0.65mm, IPC Medium Density)
footprint MUA08A_L (TSOP, 8-Leads, Body 3x3mm, Pitch 0.65mm, IPC High Density)
footprint MUA08A_M (TSOP, 8-Leads, Body 3x3mm, Pitch 0.65mm, IPC Low Density)
pins: 1 SW, 2 BST, 3 RCL, 4 RTN (power), 5 FB (in), 6 RT/SD, 7 VCC (power), 8 VIN (power)

## SM74301MME/NOPB
designator U?
100V, 350 mA Constant On-Time Buck Switching Regulator, 8-pin Mini SOIC; PartNumber: SM74301MME/NOPB; Manufacturer: National Semiconductor; PackageTopMarking: ZXTT*SB9B; PowerWise: N; CompType: Switcher; High-Reliability: Y; DatasheetVersion: Jul-2011; PackageVersion: revF, Apr-2008; PackageReference: MUA08A; PackageDescription: MINI SOIC, .118 x .118 x .034in, 8 Lead, .0256in Pitch; RoHS: Y; PinCount: 8; Code_JEDEC: MO-187-AA; ComponentLink1Description: Manufacturer URL; ComponentLink1URL: http://www.national.com/; ComponentLink2Description: SM74301 Datasheet; ComponentLink2URL: http://www.national.com/ds/SM/SM74301.pdf; ComponentLink3Description: SM74301 Web Page; ComponentLink3URL: http://www.national.com/pf/SM/SM74301.html; ComponentLink4Description: MUA08A Package Page; ComponentLink4URL: http://www.national.com/packaging/folders/mua08a.html
footprint MUA08A_N (TSOP, 8-Leads, Body 3x3mm, Pitch 0.65mm, IPC Medium Density)
footprint MUA08A_L (TSOP, 8-Leads, Body 3x3mm, Pitch 0.65mm, IPC High Density)
footprint MUA08A_M (TSOP, 8-Leads, Body 3x3mm, Pitch 0.65mm, IPC Low Density)
pins: 1 SW, 2 BST, 3 RCL, 4 RTN (power), 5 FB (in), 6 RT/SD, 7 VCC (power), 8 VIN (power)

## SM74301MMX/NOPB
designator U?
100V, 350 mA Constant On-Time Buck Switching Regulator, 8-pin Mini SOIC; PartNumber: SM74301MMX/NOPB; Manufacturer: National Semiconductor; PackageTopMarking: ZXTT*SB9B; PowerWise: N; CompType: Switcher; High-Reliability: Y; DatasheetVersion: Jul-2011; PackageVersion: revF, Apr-2008; PackageReference: MUA08A; PackageDescription: MINI SOIC, .118 x .118 x .034in, 8 Lead, .0256in Pitch; RoHS: Y; PinCount: 8; Code_JEDEC: MO-187-AA; ComponentLink1Description: Manufacturer URL; ComponentLink1URL: http://www.national.com/; ComponentLink2Description: SM74301 Datasheet; ComponentLink2URL: http://www.national.com/ds/SM/SM74301.pdf; ComponentLink3Description: SM74301 Web Page; ComponentLink3URL: http://www.national.com/pf/SM/SM74301.html; ComponentLink4Description: MUA08A Package Page; ComponentLink4URL: http://www.national.com/packaging/folders/mua08a.html
footprint MUA08A_N (TSOP, 8-Leads, Body 3x3mm, Pitch 0.65mm, IPC Medium Density)
footprint MUA08A_L (TSOP, 8-Leads, Body 3x3mm, Pitch 0.65mm, IPC High Density)
footprint MUA08A_M (TSOP, 8-Leads, Body 3x3mm, Pitch 0.65mm, IPC Low Density)
pins: 1 SW, 2 BST, 3 RCL, 4 RTN (power), 5 FB (in), 6 RT/SD, 7 VCC (power), 8 VIN (power)

## SM74301SD/NOPB
designator U?
100V, 350 mA Constant On-Time Buck Switching Regulator, 8-pin LLP; PartNumber: SM74301SD/NOPB; Manufacturer: National Semiconductor; PackageTopMarking: NS*UZXYTT*S4301; PowerWise: N; CompType: Switcher; High-Reliability: Y; DatasheetVersion: Jul-2011; PackageVersion: revA, Mar-2006; PackageReference: SDC08B; PackageDescription: LLP, Dual, 4 x 4 x 0.8mm Body, 8 Lead, 0.8mm Pitch, No Pullback, 1.98 x 3mm Exposed Pad; RoHS: Y; PinCount: 8; ComponentLink1Description: Manufacturer URL; ComponentLink1URL: http://www.national.com/; ComponentLink2Description: SM74301 Datasheet; ComponentLink2URL: http://www.national.com/ds/SM/SM74301.pdf; ComponentLink3Description: SM74301 Web Page; ComponentLink3URL: http://www.national.com/pf/SM/SM74301.html; ComponentLink4Description: SDC08B Package Page; ComponentLink4URL: http://www.national.com/packaging/folders/sdc08b.html
footprint SDC08B (SON, 8-Leads, Body 4x4mm, Pitch 0.8mm, NSC Recommended)
pins: 1 SW, 2 BST, 3 RCL, 4 RTN (power), 5 FB (in), 6 RT/SD, 7 VCC (power), 8 VIN (power), 9 EP (power)

## SM74301SDE/NOPB
designator U?
100V, 350 mA Constant On-Time Buck Switching Regulator, 8-pin LLP; PartNumber: SM74301SDE/NOPB; Manufacturer: National Semiconductor; PackageTopMarking: NS*UZXYTT*S4301; PowerWise: N; CompType: Switcher; High-Reliability: Y; DatasheetVersion: Jul-2011; PackageVersion: revA, Mar-2006; PackageReference: SDC08B; PackageDescription: LLP, Dual, 4 x 4 x 0.8mm Body, 8 Lead, 0.8mm Pitch, No Pullback, 1.98 x 3mm Exposed Pad; RoHS: Y; PinCount: 8; ComponentLink1Description: Manufacturer URL; ComponentLink1URL: http://www.national.com/; ComponentLink2Description: SM74301 Datasheet; ComponentLink2URL: http://www.national.com/ds/SM/SM74301.pdf; ComponentLink3Description: SM74301 Web Page; ComponentLink3URL: http://www.national.com/pf/SM/SM74301.html; ComponentLink4Description: SDC08B Package Page; ComponentLink4URL: http://www.national.com/packaging/folders/sdc08b.html
footprint SDC08B (SON, 8-Leads, Body 4x4mm, Pitch 0.8mm, NSC Recommended)
pins: 1 SW, 2 BST, 3 RCL, 4 RTN (power), 5 FB (in), 6 RT/SD, 7 VCC (power), 8 VIN (power), 9 EP (power)

## SM74301SDX/NOPB
designator U?
100V, 350 mA Constant On-Time Buck Switching Regulator, 8-pin LLP; PartNumber: SM74301SDX/NOPB; Manufacturer: National Semiconductor; PackageTopMarking: NS*UZXYTT*S4301; PowerWise: N; CompType: Switcher; High-Reliability: Y; DatasheetVersion: Jul-2011; PackageVersion: revA, Mar-2006; PackageReference: SDC08B; PackageDescription: LLP, Dual, 4 x 4 x 0.8mm Body, 8 Lead, 0.8mm Pitch, No Pullback, 1.98 x 3mm Exposed Pad; RoHS: Y; PinCount: 8; ComponentLink1Description: Manufacturer URL; ComponentLink1URL: http://www.national.com/; ComponentLink2Description: SM74301 Datasheet; ComponentLink2URL: http://www.national.com/ds/SM/SM74301.pdf; ComponentLink3Description: SM74301 Web Page; ComponentLink3URL: http://www.national.com/pf/SM/SM74301.html; ComponentLink4Description: SDC08B Package Page; ComponentLink4URL: http://www.national.com/packaging/folders/sdc08b.html
footprint SDC08B (SON, 8-Leads, Body 4x4mm, Pitch 0.8mm, NSC Recommended)
pins: 1 SW, 2 BST, 3 RCL, 4 RTN (power), 5 FB (in), 6 RT/SD, 7 VCC (power), 8 VIN (power), 9 EP (power)